# Altium integrated library Diodes - TVS.IntLib: 5379 symbols (part 109 of 122)
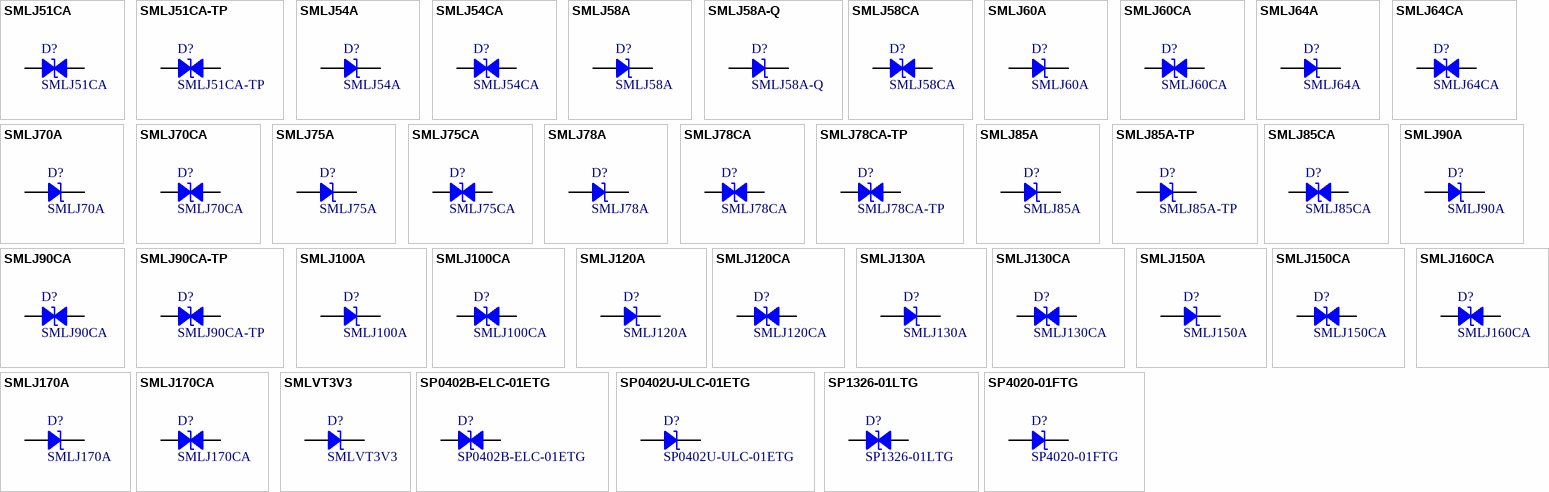
[diagram p242: symbols SMLJ51CA to SP4020-01FTG]

## SMLJ58A
designator D?
TVS DIODE 58V 93.6V SMC; Manufacturer: Bourns Inc.; Current - Peak Pulse (10/1000µs): 32A; Power Line Protection: No; Power - Peak Pulse: 3000W (3kW); Type: Zener; Unidirectional Channels: 1; Voltage - Breakdown (Min): 64.4V; Part Number: SMLJ58A; Applications: General Purpose; ComponentLink1Description: Datasheet; ComponentLink1URL: https://www.bourns.com/docs/Product-Datasheets/SMLJ.pdf; ComponentLink2Description: DigiKey Link; ComponentLink2URL: http://digikey.com/product-detail/en/bourns-inc/SMLJ58A/SMLJ58ABCT-ND/2254433; LastUpdated: 9/2/2020 1:20:02 AM; Lifecycle Status: Active; Minimum Order: 1; Mounting Type: Surface Mount; Operating Temperature: -55°C ~ 150°C (TJ); Package / Case: DO-214AB, SMC; Packaging: TapeAndReel; PartId: 6644; Part Status: Active; Price: 0.46; Series: SMLJ; Supplier 1: DigiKey; Supplier Part Number 1: SMLJ58ABCT-ND; Supplier Device Package: SMC (DO-214AB); Voltage - Clamping (Max) @ Ipp: 93.6V; Voltage - Reverse Standoff (Typ): 58V
footprint DO214AB SMC
pins: 1, 2

## SMLJ58A-Q
designator D?
TVS DIODE 58V 93.6V SMC; Manufacturer: Bourns Inc.; Current - Peak Pulse (10/1000µs): 32A; Power Line Protection: No; Power - Peak Pulse: 3000W (3kW); Type: Zener; Unidirectional Channels: 1; Voltage - Breakdown (Min): 64.4V; Part Number: SMLJ58A-Q; Applications: Automotive; ComponentLink1Description: Datasheet; ComponentLink1URL: https://www.bourns.com/docs/Product-Datasheets/SMLJ-Q.pdf; ComponentLink2Description: DigiKey Link; ComponentLink2URL: http://digikey.com/product-detail/en/bourns-inc/SMLJ58A-Q/SMLJ58A-QCT-ND/10222746; LastUpdated: 9/2/2020 1:20:02 AM; Lifecycle Status: Active; Minimum Order: 1; Mounting Type: Surface Mount; Operating Temperature: -55°C ~ 150°C (TJ); Package / Case: DO-214AB, SMC; Packaging: TapeAndReel; PartId: 6606; Part Status: Active; Price: 0.51; Series: Automotive, AEC-Q101, SMLJ; Supplier 1: DigiKey; Supplier Part Number 1: SMLJ58A-QCT-ND; Supplier Device Package: SMC (DO-214AB); Voltage - Clamping (Max) @ Ipp: 93.6V; Voltage - Reverse Standoff (Typ): 58V
footprint DO214AB SMC
pins: 1, 2

## SMLJ58CA
designator D?
TVS DIODE 58V 93.6V SMC; Manufacturer: Bourns Inc.; Bidirectional Channels: 1; Current - Peak Pulse (10/1000µs): 32A; Power Line Protection: No; Power - Peak Pulse: 3000W (3kW); Type: Zener; Voltage - Breakdown (Min): 64.4V; Part Number: SMLJ58CA; Applications: General Purpose; ComponentLink1Description: Datasheet; ComponentLink1URL: https://www.bourns.com/docs/Product-Datasheets/SMLJ.pdf; ComponentLink2Description: DigiKey Link; ComponentLink2URL: http://digikey.com/product-detail/en/bourns-inc/SMLJ58CA/SMLJ58CABCT-ND/2253689; LastUpdated: 9/2/2020 1:28:04 AM; Lifecycle Status: Active; Minimum Order: 1; Mounting Type: Surface Mount; Operating Temperature: -55°C ~ 150°C (TJ); Package / Case: DO-214AB, SMC; Packaging: TapeAndReel; PartId: 8257; Part Status: Active; Price: 0.51; Series: SMLJ; Supplier 1: DigiKey; Supplier Part Number 1: SMLJ58CABCT-ND; Supplier Device Package: SMC (DO-214AB); Voltage - Clamping (Max) @ Ipp: 93.6V; Voltage - Reverse Standoff (Typ): 58V
footprint DO214AB SMC
pins: 1, 2

## SMLJ60A
designator D?
TVS DIODE 60V 96.8V SMC; Manufacturer: Bourns Inc.; Current - Peak Pulse (10/1000µs): 31A; Power Line Protection: No; Power - Peak Pulse: 3000W (3kW); Type: Zener; Unidirectional Channels: 1; Voltage - Breakdown (Min): 66.7V; Part Number: SMLJ60A; Applications: General Purpose; ComponentLink1Description: Datasheet; ComponentLink1URL: https://www.bourns.com/docs/Product-Datasheets/SMLJ.pdf; ComponentLink2Description: DigiKey Link; ComponentLink2URL: http://digikey.com/product-detail/en/bourns-inc/SMLJ60A/SMLJ60ABCT-ND/2254437; LastUpdated: 9/2/2020 1:20:07 AM; Lifecycle Status: Active; Minimum Order: 1; Mounting Type: Surface Mount; Operating Temperature: -55°C ~ 150°C (TJ); Package / Case: DO-214AB, SMC; Packaging: TapeAndReel; PartId: 7170; Part Status: Active; Price: 0.46; Series: SMLJ; Supplier 1: DigiKey; Supplier Part Number 1: SMLJ60ABCT-ND; Supplier Device Package: SMC (DO-214AB); Voltage - Clamping (Max) @ Ipp: 96.8V; Voltage - Reverse Standoff (Typ): 60V
footprint DO214AB SMC
pins: 1, 2

## SMLJ60CA
designator D?
TVS DIODE 60V 96.8V SMC; Manufacturer: Bourns Inc.; Bidirectional Channels: 1; Current - Peak Pulse (10/1000µs): 31A; Power Line Protection: No; Power - Peak Pulse: 3000W (3kW); Type: Zener; Voltage - Breakdown (Min): 66.7V; Part Number: SMLJ60CA; Applications: General Purpose; ComponentLink1Description: Datasheet; ComponentLink1URL: https://www.bourns.com/docs/Product-Datasheets/SMLJ.pdf; ComponentLink2Description: DigiKey Link; ComponentLink2URL: http://digikey.com/product-detail/en/bourns-inc/SMLJ60CA/SMLJ60CABCT-ND/2253690; LastUpdated: 9/2/2020 1:28:04 AM; Lifecycle Status: Active; Minimum Order: 1; Mounting Type: Surface Mount; Operating Temperature: -55°C ~ 150°C (TJ); Package / Case: DO-214AB, SMC; Packaging: TapeAndReel; PartId: 8255; Part Status: Active; Price: 0.51; Series: SMLJ; Supplier 1: DigiKey; Supplier Part Number 1: SMLJ60CABCT-ND; Supplier Device Package: SMC (DO-214AB); Voltage - Clamping (Max) @ Ipp: 96.8V; Voltage - Reverse Standoff (Typ): 60V
footprint DO214AB SMC
pins: 1, 2

## SMLJ64A
designator D?
TVS DIODE 64V 103V SMC; Manufacturer: Bourns Inc.; Current - Peak Pulse (10/1000µs): 29.2A; Power Line Protection: No; Power - Peak Pulse: 3000W (3kW); Type: Zener; Unidirectional Channels: 1; Voltage - Breakdown (Min): 71.1V; Part Number: SMLJ64A; Applications: General Purpose; ComponentLink1Description: Datasheet; ComponentLink1URL: https://www.bourns.com/docs/Product-Datasheets/SMLJ.pdf; ComponentLink2Description: DigiKey Link; ComponentLink2URL: http://digikey.com/product-detail/en/bourns-inc/SMLJ64A/SMLJ64ABCT-ND/2254468; LastUpdated: 9/2/2020 1:20:07 AM; Lifecycle Status: Active; Minimum Order: 1; Mounting Type: Surface Mount; Operating Temperature: -55°C ~ 150°C (TJ); Package / Case: DO-214AB, SMC; Packaging: TapeAndReel; PartId: 7137; Part Status: Active; Price: 0.46; Series: SMLJ; Supplier 1: DigiKey; Supplier Part Number 1: SMLJ64ABCT-ND; Supplier Device Package: SMC (DO-214AB); Voltage - Clamping (Max) @ Ipp: 103V; Voltage - Reverse Standoff (Typ): 64V
footprint DO214AB SMC
pins: 1, 2

## SMLJ64CA
designator D?
TVS DIODE 64V 103V SMC; Manufacturer: Bourns Inc.; Bidirectional Channels: 1; Current - Peak Pulse (10/1000µs): 29.2A; Power Line Protection: No; Power - Peak Pulse: 3000W (3kW); Type: Zener; Voltage - Breakdown (Min): 71.1V; Part Number: SMLJ64CA; Applications: General Purpose; ComponentLink1Description: Datasheet; ComponentLink1URL: https://www.bourns.com/docs/Product-Datasheets/SMLJ.pdf; ComponentLink2Description: DigiKey Link; ComponentLink2URL: http://digikey.com/product-detail/en/bourns-inc/SMLJ64CA/SMLJ64CABCT-ND/2253691; LastUpdated: 9/2/2020 1:28:08 AM; Lifecycle Status: Active; Minimum Order: 1; Mounting Type: Surface Mount; Operating Temperature: -55°C ~ 150°C (TJ); Package / Case: DO-214AB, SMC; Packaging: TapeAndReel; PartId: 8676; Part Status: Active; Price: 0.51; Series: SMLJ; Supplier 1: DigiKey; Supplier Part Number 1: SMLJ64CABCT-ND; Supplier Device Package: SMC (DO-214AB); Voltage - Clamping (Max) @ Ipp: 103V; Voltage - Reverse Standoff (Typ): 64V
footprint DO214AB SMC
pins: 1, 2

## SMLJ70A
designator D?
TVS DIODE 70V 113V SMC; Manufacturer: Bourns Inc.; Current - Peak Pulse (10/1000µs): 26.6A; Power Line Protection: No; Power - Peak Pulse: 3000W (3kW); Type: Zener; Unidirectional Channels: 1; Voltage - Breakdown (Min): 77.8V; Part Number: SMLJ70A; Applications: General Purpose; ComponentLink1Description: Datasheet; ComponentLink1URL: https://www.bourns.com/docs/Product-Datasheets/SMLJ.pdf; ComponentLink2Description: DigiKey Link; ComponentLink2URL: http://digikey.com/product-detail/en/bourns-inc/SMLJ70A/SMLJ70ABCT-ND/2254431; LastUpdated: 9/2/2020 1:20:01 AM; Lifecycle Status: Active; Minimum Order: 1; Mounting Type: Surface Mount; Operating Temperature: -55°C ~ 150°C (TJ); Package / Case: DO-214AB, SMC; Packaging: TapeAndReel; PartId: 6460; Part Status: Active; Price: 0.46; Series: SMLJ; Supplier 1: DigiKey; Supplier Part Number 1: SMLJ70ABCT-ND; Supplier Device Package: SMC (DO-214AB); Voltage - Clamping (Max) @ Ipp: 113V; Voltage - Reverse Standoff (Typ): 70V
footprint DO214AB SMC
pins: 1, 2

## SMLJ70CA
designator D?
TVS DIODE 70V 113V SMC; Manufacturer: Bourns Inc.; Bidirectional Channels: 1; Current - Peak Pulse (10/1000µs): 26.6A; Power Line Protection: No; Power - Peak Pulse: 3000W (3kW); Type: Zener; Voltage - Breakdown (Min): 77.8V; Part Number: SMLJ70CA; Applications: General Purpose; ComponentLink1Description: Datasheet; ComponentLink1URL: https://www.bourns.com/docs/Product-Datasheets/SMLJ.pdf; ComponentLink2Description: DigiKey Link; ComponentLink2URL: http://digikey.com/product-detail/en/bourns-inc/SMLJ70CA/SMLJ70CABCT-ND/2253692; LastUpdated: 9/2/2020 1:28:07 AM; Lifecycle Status: Active; Minimum Order: 1; Mounting Type: Surface Mount; Operating Temperature: -55°C ~ 150°C (TJ); Package / Case: DO-214AB, SMC; Packaging: TapeAndReel; PartId: 8550; Part Status: Active; Price: 0.51; Series: SMLJ; Supplier 1: DigiKey; Supplier Part Number 1: SMLJ70CABCT-ND; Supplier Device Package: SMC (DO-214AB); Voltage - Clamping (Max) @ Ipp: 113V; Voltage - Reverse Standoff (Typ): 70V
footprint DO214AB SMC
pins: 1, 2

## SMLJ75A
designator D?
TVS DIODE 75V 121V SMC; Manufacturer: Bourns Inc.; Current - Peak Pulse (10/1000µs): 24.8A; Power Line Protection: No; Power - Peak Pulse: 3000W (3kW); Type: Zener; Unidirectional Channels: 1; Voltage - Breakdown (Min): 83.3V; Part Number: SMLJ75A; Applications: General Purpose; ComponentLink1Description: Datasheet; ComponentLink1URL: https://www.bourns.com/docs/Product-Datasheets/SMLJ.pdf; ComponentLink2Description: DigiKey Link; ComponentLink2URL: http://digikey.com/product-detail/en/bourns-inc/SMLJ75A/SMLJ75ABCT-ND/2253647; LastUpdated: 9/2/2020 1:20:07 AM; Lifecycle Status: Active; Minimum Order: 1; Mounting Type: Surface Mount; Operating Temperature: -55°C ~ 150°C (TJ); Package / Case: DO-214AB, SMC; Packaging: TapeAndReel; PartId: 7182; Part Status: Active; Price: 0.46; Series: SMLJ; Supplier 1: DigiKey; Supplier Part Number 1: SMLJ75ABCT-ND; Supplier Device Package: SMC (DO-214AB); Voltage - Clamping (Max) @ Ipp: 121V; Voltage - Reverse Standoff (Typ): 75V
footprint DO214AB SMC
pins: 1, 2

## SMLJ75CA
designator D?
TVS DIODE 75V 121V SMC; Manufacturer: Bourns Inc.; Bidirectional Channels: 1; Current - Peak Pulse (10/1000µs): 24.8A; Power Line Protection: No; Power - Peak Pulse: 3000W (3kW); Type: Zener; Voltage - Breakdown (Min): 83.3V; Part Number: SMLJ75CA; Applications: General Purpose; ComponentLink1Description: Datasheet; ComponentLink1URL: https://www.bourns.com/docs/Product-Datasheets/SMLJ.pdf; ComponentLink2Description: DigiKey Link; ComponentLink2URL: http://digikey.com/product-detail/en/bourns-inc/SMLJ75CA/SMLJ75CABCT-ND/2253693; LastUpdated: 9/2/2020 1:28:07 AM; Lifecycle Status: Active; Minimum Order: 1; Mounting Type: Surface Mount; Operating Temperature: -55°C ~ 150°C (TJ); Package / Case: DO-214AB, SMC; Packaging: TapeAndReel; PartId: 8548; Part Status: Active; Price: 0.51; Series: SMLJ; Supplier 1: DigiKey; Supplier Part Number 1: SMLJ75CABCT-ND; Supplier Device Package: SMC (DO-214AB); Voltage - Clamping (Max) @ Ipp: 121V; Voltage - Reverse Standoff (Typ): 75V
footprint DO214AB SMC
pins: 1, 2

## SMLJ78A
designator D?
TVS DIODE 78V 126V SMC; Manufacturer: Bourns Inc.; Current - Peak Pulse (10/1000µs): 22.8A; Power Line Protection: No; Power - Peak Pulse: 3000W (3kW); Type: Zener; Unidirectional Channels: 1; Voltage - Breakdown (Min): 86.7V; Part Number: SMLJ78A; Applications: General Purpose; ComponentLink1Description: Datasheet; ComponentLink1URL: https://www.bourns.com/docs/Product-Datasheets/SMLJ.pdf; ComponentLink2Description: DigiKey Link; ComponentLink2URL: http://digikey.com/product-detail/en/bourns-inc/SMLJ78A/SMLJ78ABCT-ND/2253648; LastUpdated: 9/2/2020 1:20:07 AM; Lifecycle Status: Active; Minimum Order: 1; Mounting Type: Surface Mount; Operating Temperature: -55°C ~ 150°C (TJ); Package / Case: DO-214AB, SMC; Packaging: TapeAndReel; PartId: 7136; Part Status: Active; Price: 0.46; Series: SMLJ; Supplier 1: DigiKey; Supplier Part Number 1: SMLJ78ABCT-ND; Supplier Device Package: SMC (DO-214AB); Voltage - Clamping (Max) @ Ipp: 126V; Voltage - Reverse Standoff (Typ): 78V
footprint DO214AB SMC
pins: 1, 2

## SMLJ78CA
designator D?
TVS DIODE 78V 126V SMC; Manufacturer: Bourns Inc.; Bidirectional Channels: 1; Current - Peak Pulse (10/1000µs): 22.8A; Power Line Protection: No; Power - Peak Pulse: 3000W (3kW); Type: Zener; Voltage - Breakdown (Min): 86.7V; Part Number: SMLJ78CA; Applications: General Purpose; ComponentLink1Description: Datasheet; ComponentLink1URL: https://www.bourns.com/docs/Product-Datasheets/SMLJ.pdf; ComponentLink2Description: DigiKey Link; ComponentLink2URL: http://digikey.com/product-detail/en/bourns-inc/SMLJ78CA/SMLJ78CABCT-ND/2253694; LastUpdated: 9/2/2020 1:28:03 AM; Lifecycle Status: Active; Minimum Order: 1; Mounting Type: Surface Mount; Operating Temperature: -55°C ~ 150°C (TJ); Package / Case: DO-214AB, SMC; Packaging: TapeAndReel; PartId: 8081; Part Status: Active; Price: 0.51; Series: SMLJ; Supplier 1: DigiKey; Supplier Part Number 1: SMLJ78CABCT-ND; Supplier Device Package: SMC (DO-214AB); Voltage - Clamping (Max) @ Ipp: 126V; Voltage - Reverse Standoff (Typ): 78V
footprint DO214AB SMC
pins: 1, 2

## SMLJ78CA-TP
designator D?
TVS DIODE 78V 126V DO214AB; Manufacturer: Micro Commercial Co; Bidirectional Channels: 1; Current - Peak Pulse (10/1000µs): 22.8A; Power Line Protection: No; Power - Peak Pulse: 3000W (3kW); Type: Zener; Voltage - Breakdown (Min): 86.7V; Part Number: SMLJ78CA-TP; Applications: General Purpose; ComponentLink1Description: Datasheet; ComponentLink1URL: https://www.mccsemi.com/pdf/Products/SMLJ5.0-SMLJ170CA(LSMC).pdf; ComponentLink2Description: DigiKey Link; ComponentLink2URL: http://digikey.com/product-detail/en/micro-commercial-co/SMLJ78CA-TP/SMLJ78CA-TPMSCT-ND/3191629; LastUpdated: 9/2/2020 1:28:07 AM; Lifecycle Status: Active; Minimum Order: 1; Mounting Type: Surface Mount; Operating Temperature: -55°C ~ 175°C (TJ); Package / Case: DO-214AB, SMC; Packaging: TapeAndReel; PartId: 8563; Part Status: Active; Price: 0.46; Series: -; Supplier 1: DigiKey; Supplier Part Number 1: SMLJ78CA-TPMSCT-ND; Supplier Device Package: DO-214AB (SMC); Voltage - Clamping (Max) @ Ipp: 126V; Voltage - Reverse Standoff (Typ): 78V
footprint DO214AB SMC
pins: 1, 2

## SMLJ85A
designator D?
TVS DIODE 85V 137V SMC; Manufacturer: Bourns Inc.; Current - Peak Pulse (10/1000µs): 20.8A; Power Line Protection: No; Power - Peak Pulse: 3000W (3kW); Type: Zener; Unidirectional Channels: 1; Voltage - Breakdown (Min): 94.4V; Part Number: SMLJ85A; Applications: General Purpose; ComponentLink1Description: Datasheet; ComponentLink1URL: https://www.bourns.com/docs/Product-Datasheets/SMLJ.pdf; ComponentLink2Description: DigiKey Link; ComponentLink2URL: http://digikey.com/product-detail/en/bourns-inc/SMLJ85A/SMLJ85ABCT-ND/2253649; LastUpdated: 9/2/2020 1:20:06 AM; Lifecycle Status: Active; Minimum Order: 1; Mounting Type: Surface Mount; Operating Temperature: -55°C ~ 150°C (TJ); Package / Case: DO-214AB, SMC; Packaging: TapeAndReel; PartId: 6992; Part Status: Active; Price: 0.46; Series: SMLJ; Supplier 1: DigiKey; Supplier Part Number 1: SMLJ85ABCT-ND; Supplier Device Package: SMC (DO-214AB); Voltage - Clamping (Max) @ Ipp: 137V; Voltage - Reverse Standoff (Typ): 85V
footprint DO214AB SMC
pins: 1, 2

## SMLJ85A-TP
designator D?
TVS DIODE 85V 137V DO214AB; Manufacturer: Micro Commercial Co; Current - Peak Pulse (10/1000µs): 20.8A; Power Line Protection: No; Power - Peak Pulse: 3000W (3kW); Type: Zener; Unidirectional Channels: 1; Voltage - Breakdown (Min): 94.4V; Part Number: SMLJ85A-TP; Applications: General Purpose; ComponentLink1Description: Datasheet; ComponentLink1URL: https://www.mccsemi.com/pdf/Products/SMLJ5.0-SMLJ440CA(LSMC).pdf; ComponentLink2Description: DigiKey Link; ComponentLink2URL: http://digikey.com/product-detail/en/micro-commercial-co/SMLJ85A-TP/SMLJ85A-TPMSCT-ND/5224330; LastUpdated: 9/2/2020 1:20:07 AM; Lifecycle Status: Active; Minimum Order: 1; Mounting Type: Surface Mount; Operating Temperature: -55°C ~ 175°C (TJ); Package / Case: DO-214AB, SMC; Packaging: TapeAndReel; PartId: 7171; Part Status: Active; Price: 0.40; Series: -; Supplier 1: DigiKey; Supplier Part Number 1: SMLJ85A-TPMSCT-ND; Supplier Device Package: DO-214AB (SMC); Voltage - Clamping (Max) @ Ipp: 137V; Voltage - Reverse Standoff (Typ): 85V
footprint DO214AB SMC
pins: 1, 2

## SMLJ85CA
designator D?
TVS DIODE 85V 137V SMC; Manufacturer: Bourns Inc.; Bidirectional Channels: 1; Current - Peak Pulse (10/1000µs): 20.8A; Power Line Protection: No; Power - Peak Pulse: 3000W (3kW); Type: Zener; Voltage - Breakdown (Min): 94.4V; Part Number: SMLJ85CA; Applications: General Purpose; ComponentLink1Description: Datasheet; ComponentLink1URL: https://www.bourns.com/docs/Product-Datasheets/SMLJ.pdf; ComponentLink2Description: DigiKey Link; ComponentLink2URL: http://digikey.com/product-detail/en/bourns-inc/SMLJ85CA/SMLJ85CABCT-ND/2253695; LastUpdated: 9/2/2020 1:28:04 AM; Lifecycle Status: Active; Minimum Order: 1; Mounting Type: Surface Mount; Operating Temperature: -55°C ~ 150°C (TJ); Package / Case: DO-214AB, SMC; Packaging: TapeAndReel; PartId: 8264; Part Status: Active; Price: 0.46; Series: SMLJ; Supplier 1: DigiKey; Supplier Part Number 1: SMLJ85CABCT-ND; Supplier Device Package: SMC (DO-214AB); Voltage - Clamping (Max) @ Ipp: 137V; Voltage - Reverse Standoff (Typ): 85V
footprint DO214AB SMC
pins: 1, 2

## SMLJ90A
designator D?
TVS DIODE 90V 146V SMC; Manufacturer: Bourns Inc.; Current - Peak Pulse (10/1000µs): 20.6A; Power Line Protection: No; Power - Peak Pulse: 3000W (3kW); Type: Zener; Unidirectional Channels: 1; Voltage - Breakdown (Min): 100V; Part Number: SMLJ90A; Applications: General Purpose; ComponentLink1Description: Datasheet; ComponentLink1URL: https://www.bourns.com/docs/Product-Datasheets/SMLJ.pdf; ComponentLink2Description: DigiKey Link; ComponentLink2URL: http://digikey.com/product-detail/en/bourns-inc/SMLJ90A/SMLJ90ABCT-ND/2253650; LastUpdated: 9/2/2020 1:20:01 AM; Lifecycle Status: Active; Minimum Order: 1; Mounting Type: Surface Mount; Operating Temperature: -55°C ~ 150°C (TJ); Package / Case: DO-214AB, SMC; Packaging: TapeAndReel; PartId: 6458; Part Status: Active; Price: 0.46; Series: SMLJ; Supplier 1: DigiKey; Supplier Part Number 1: SMLJ90ABCT-ND; Supplier Device Package: SMC (DO-214AB); Voltage - Clamping (Max) @ Ipp: 146V; Voltage - Reverse Standoff (Typ): 90V
footprint DO214AB SMC
pins: 1, 2

## SMLJ90CA
designator D?
TVS DIODE 90V 146V SMC; Manufacturer: Bourns Inc.; Bidirectional Channels: 1; Current - Peak Pulse (10/1000µs): 20.6A; Power Line Protection: No; Power - Peak Pulse: 3000W (3kW); Type: Zener; Voltage - Breakdown (Min): 100V; Part Number: SMLJ90CA; Applications: General Purpose; ComponentLink1Description: Datasheet; ComponentLink1URL: https://www.bourns.com/docs/Product-Datasheets/SMLJ.pdf; ComponentLink2Description: DigiKey Link; ComponentLink2URL: http://digikey.com/product-detail/en/bourns-inc/SMLJ90CA/SMLJ90CABCT-ND/2253696; LastUpdated: 9/2/2020 1:28:07 AM; Lifecycle Status: Active; Minimum Order: 1; Mounting Type: Surface Mount; Operating Temperature: -55°C ~ 150°C (TJ); Package / Case: DO-214AB, SMC; Packaging: TapeAndReel; PartId: 8547; Part Status: Active; Price: 0.51; Series: SMLJ; Supplier 1: DigiKey; Supplier Part Number 1: SMLJ90CABCT-ND; Supplier Device Package: SMC (DO-214AB); Voltage - Clamping (Max) @ Ipp: 146V; Voltage - Reverse Standoff (Typ): 90V
footprint DO214AB SMC
pins: 1, 2

## SMLJ90CA-TP
designator D?
TVS DIODE 90V 146V DO214AB; Manufacturer: Micro Commercial Co; Bidirectional Channels: 1; Current - Peak Pulse (10/1000µs): 20.6A; Power Line Protection: No; Power - Peak Pulse: 3000W (3kW); Type: Zener; Voltage - Breakdown (Min): 100V; Part Number: SMLJ90CA-TP; Applications: General Purpose; ComponentLink1Description: Datasheet; ComponentLink1URL: https://www.mccsemi.com/pdf/Products/SMLJ5.0-SMLJ170CA(LSMC).pdf; ComponentLink2Description: DigiKey Link; ComponentLink2URL: http://digikey.com/product-detail/en/micro-commercial-co/SMLJ90CA-TP/SMLJ90CA-TPMSCT-ND/3191630; LastUpdated: 9/2/2020 1:28:01 AM; Lifecycle Status: Active; Minimum Order: 1; Mounting Type: Surface Mount; Operating Temperature: -55°C ~ 175°C (TJ); Package / Case: DO-214AB, SMC; Packaging: TapeAndReel; PartId: 7905; Part Status: Active; Price: 0.46; Series: -; Supplier 1: DigiKey; Supplier Part Number 1: SMLJ90CA-TPMSCT-ND; Supplier Device Package: DO-214AB (SMC); Voltage - Clamping (Max) @ Ipp: 146V; Voltage - Reverse Standoff (Typ): 90V
footprint DO214AB SMC
pins: 1, 2

## SMLJ100A
designator D?
TVS DIODE 100V 162V SMC; Manufacturer: Bourns Inc.; Current - Peak Pulse (10/1000µs): 18.6A; Power Line Protection: No; Power - Peak Pulse: 3000W (3kW); Type: Zener; Unidirectional Channels: 1; Voltage - Breakdown (Min): 111V; Part Number: SMLJ100A; Applications: General Purpose; ComponentLink1Description: Datasheet; ComponentLink1URL: https://www.bourns.com/docs/Product-Datasheets/SMLJ.pdf; ComponentLink2Description: DigiKey Link; ComponentLink2URL: http://digikey.com/product-detail/en/bourns-inc/SMLJ100A/SMLJ100ABCT-ND/2253651; LastUpdated: 9/2/2020 1:20:06 AM; Lifecycle Status: Active; Minimum Order: 1; Mounting Type: Surface Mount; Operating Temperature: -55°C ~ 150°C (TJ); Package / Case: DO-214AB, SMC; Packaging: TapeAndReel; PartId: 6991; Part Status: Active; Price: 0.46; Series: SMLJ; Supplier 1: DigiKey; Supplier Part Number 1: SMLJ100ABCT-ND; Supplier Device Package: SMC (DO-214AB); Voltage - Clamping (Max) @ Ipp: 162V; Voltage - Reverse Standoff (Typ): 100V
footprint DO214AB SMC
pins: 1, 2

## SMLJ100CA
designator D?
TVS DIODE 100V 162V SMC; Manufacturer: Bourns Inc.; Bidirectional Channels: 1; Current - Peak Pulse (10/1000µs): 18.6A; Power Line Protection: No; Power - Peak Pulse: 3000W (3kW); Type: Zener; Voltage - Breakdown (Min): 111V; Part Number: SMLJ100CA; Applications: General Purpose; ComponentLink1Description: Datasheet; ComponentLink1URL: https://www.bourns.com/docs/Product-Datasheets/SMLJ.pdf; ComponentLink2Description: DigiKey Link; ComponentLink2URL: http://digikey.com/product-detail/en/bourns-inc/SMLJ100CA/SMLJ100CABCT-ND/2253697; LastUpdated: 9/2/2020 1:28:03 AM; Lifecycle Status: Active; Minimum Order: 1; Mounting Type: Surface Mount; Operating Temperature: -55°C ~ 150°C (TJ); Package / Case: DO-214AB, SMC; Packaging: TapeAndReel; PartId: 8084; Part Status: Active; Price: 0.51; Series: SMLJ; Supplier 1: DigiKey; Supplier Part Number 1: SMLJ100CABCT-ND; Supplier Device Package: SMC (DO-214AB); Voltage - Clamping (Max) @ Ipp: 162V; Voltage - Reverse Standoff (Typ): 100V
footprint DO214AB SMC
pins: 1, 2

## SMLJ120A
designator D?
TVS DIODE 120V 193V SMC; Manufacturer: Bourns Inc.; Current - Peak Pulse (10/1000µs): 15.6A; Power Line Protection: No; Power - Peak Pulse: 3000W (3kW); Type: Zener; Unidirectional Channels: 1; Voltage - Breakdown (Min): 133V; Part Number: SMLJ120A; Applications: General Purpose; ComponentLink1Description: Datasheet; ComponentLink1URL: https://www.bourns.com/docs/Product-Datasheets/SMLJ.pdf; ComponentLink2Description: DigiKey Link; ComponentLink2URL: http://digikey.com/product-detail/en/bourns-inc/SMLJ120A/SMLJ120ABCT-ND/2253653; LastUpdated: 9/2/2020 1:20:07 AM; Lifecycle Status: Active; Minimum Order: 1; Mounting Type: Surface Mount; Operating Temperature: -55°C ~ 150°C (TJ); Package / Case: DO-214AB, SMC; Packaging: TapeAndReel; PartId: 7138; Part Status: Active; Price: 0.46; Series: SMLJ; Supplier 1: DigiKey; Supplier Part Number 1: SMLJ120ABCT-ND; Supplier Device Package: SMC (DO-214AB); Voltage - Clamping (Max) @ Ipp: 193V; Voltage - Reverse Standoff (Typ): 120V
footprint DO214AB SMC
pins: 1, 2

## SMLJ120CA
designator D?
TVS DIODE 120V 193V SMC; Manufacturer: Bourns Inc.; Bidirectional Channels: 1; Current - Peak Pulse (10/1000µs): 15.6A; Power Line Protection: No; Power - Peak Pulse: 3000W (3kW); Type: Zener; Voltage - Breakdown (Min): 133V; Part Number: SMLJ120CA; Applications: General Purpose; ComponentLink1Description: Datasheet; ComponentLink1URL: https://www.bourns.com/docs/Product-Datasheets/SMLJ.pdf; ComponentLink2Description: DigiKey Link; ComponentLink2URL: http://digikey.com/product-detail/en/bourns-inc/SMLJ120CA/SMLJ120CABCT-ND/2253699; LastUpdated: 9/2/2020 1:28:03 AM; Lifecycle Status: Active; Minimum Order: 1; Mounting Type: Surface Mount; Operating Temperature: -55°C ~ 150°C (TJ); Package / Case: DO-214AB, SMC; Packaging: TapeAndReel; PartId: 8083; Part Status: Active; Price: 0.51; Series: SMLJ; Supplier 1: DigiKey; Supplier Part Number 1: SMLJ120CABCT-ND; Supplier Device Package: SMC (DO-214AB); Voltage - Clamping (Max) @ Ipp: 193V; Voltage - Reverse Standoff (Typ): 120V
footprint DO214AB SMC
pins: 1, 2

## SMLJ130A
designator D?
TVS DIODE 130V 209V SMC; Manufacturer: Bourns Inc.; Current - Peak Pulse (10/1000µs): 14.4A; Power Line Protection: No; Power - Peak Pulse: 3000W (3kW); Type: Zener; Unidirectional Channels: 1; Voltage - Breakdown (Min): 144V; Part Number: SMLJ130A; Applications: General Purpose; ComponentLink1Description: Datasheet; ComponentLink1URL: https://www.bourns.com/docs/Product-Datasheets/SMLJ.pdf; ComponentLink2Description: DigiKey Link; ComponentLink2URL: http://digikey.com/product-detail/en/bourns-inc/SMLJ130A/SMLJ130ABCT-ND/2253654; LastUpdated: 9/2/2020 1:20:06 AM; Lifecycle Status: Active; Minimum Order: 1; Mounting Type: Surface Mount; Operating Temperature: -55°C ~ 150°C (TJ); Package / Case: DO-214AB, SMC; Packaging: TapeAndReel; PartId: 6993; Part Status: Active; Price: 0.46; Series: SMLJ; Supplier 1: DigiKey; Supplier Part Number 1: SMLJ130ABCT-ND; Supplier Device Package: SMC (DO-214AB); Voltage - Clamping (Max) @ Ipp: 209V; Voltage - Reverse Standoff (Typ): 130V
footprint DO214AB SMC
pins: 1, 2

## SMLJ130CA
designator D?
TVS DIODE 130V 209V SMC; Manufacturer: Bourns Inc.; Bidirectional Channels: 1; Current - Peak Pulse (10/1000µs): 14.4A; Power Line Protection: No; Power - Peak Pulse: 3000W (3kW); Type: Zener; Voltage - Breakdown (Min): 144V; Part Number: SMLJ130CA; Applications: General Purpose; ComponentLink1Description: Datasheet; ComponentLink1URL: https://www.bourns.com/docs/Product-Datasheets/SMLJ.pdf; ComponentLink2Description: DigiKey Link; ComponentLink2URL: http://digikey.com/product-detail/en/bourns-inc/SMLJ130CA/SMLJ130CABCT-ND/2253700; LastUpdated: 9/2/2020 1:28:07 AM; Lifecycle Status: Active; Minimum Order: 1; Mounting Type: Surface Mount; Operating Temperature: -55°C ~ 150°C (TJ); Package / Case: DO-214AB, SMC; Packaging: TapeAndReel; PartId: 8549; Part Status: Active; Price: 0.51; Series: SMLJ; Supplier 1: DigiKey; Supplier Part Number 1: SMLJ130CABCT-ND; Supplier Device Package: SMC (DO-214AB); Voltage - Clamping (Max) @ Ipp: 209V; Voltage - Reverse Standoff (Typ): 130V
footprint DO214AB SMC
pins: 1, 2

## SMLJ150A
designator D?
TVS DIODE 150V 243V SMC; Manufacturer: Bourns Inc.; Current - Peak Pulse (10/1000µs): 12.4A; Power Line Protection: No; Power - Peak Pulse: 3000W (3kW); Type: Zener; Unidirectional Channels: 1; Voltage - Breakdown (Min): 167V; Part Number: SMLJ150A; Applications: General Purpose; ComponentLink1Description: Datasheet; ComponentLink1URL: https://www.bourns.com/docs/Product-Datasheets/SMLJ.pdf; ComponentLink2Description: DigiKey Link; ComponentLink2URL: http://digikey.com/product-detail/en/bourns-inc/SMLJ150A/SMLJ150ABCT-ND/2253655; LastUpdated: 9/2/2020 1:20:01 AM; Lifecycle Status: Active; Minimum Order: 1; Mounting Type: Surface Mount; Operating Temperature: -55°C ~ 150°C (TJ); Package / Case: DO-214AB, SMC; Packaging: TapeAndReel; PartId: 6461; Part Status: Active; Price: 0.46; Series: SMLJ; Supplier 1: DigiKey; Supplier Part Number 1: SMLJ150ABCT-ND; Supplier Device Package: SMC (DO-214AB); Voltage - Clamping (Max) @ Ipp: 243V; Voltage - Reverse Standoff (Typ): 150V
footprint DO214AB SMC
pins: 1, 2

## SMLJ150CA
designator D?
TVS DIODE 150V 243V SMC; Manufacturer: Bourns Inc.; Bidirectional Channels: 1; Current - Peak Pulse (10/1000µs): 12.4A; Power Line Protection: No; Power - Peak Pulse: 3000W (3kW); Type: Zener; Voltage - Breakdown (Min): 167V; Part Number: SMLJ150CA; Applications: General Purpose; ComponentLink1Description: Datasheet; ComponentLink1URL: https://www.bourns.com/docs/Product-Datasheets/SMLJ.pdf; ComponentLink2Description: DigiKey Link; ComponentLink2URL: http://digikey.com/product-detail/en/bourns-inc/SMLJ150CA/SMLJ150CABCT-ND/2253701; LastUpdated: 9/2/2020 1:28:04 AM; Lifecycle Status: Active; Minimum Order: 1; Mounting Type: Surface Mount; Operating Temperature: -55°C ~ 150°C (TJ); Package / Case: DO-214AB, SMC; Packaging: TapeAndReel; PartId: 8155; Part Status: Active; Price: 0.48; Series: SMLJ; Supplier 1: DigiKey; Supplier Part Number 1: SMLJ150CABCT-ND; Supplier Device Package: SMC (DO-214AB); Voltage - Clamping (Max) @ Ipp: 243V; Voltage - Reverse Standoff (Typ): 150V
footprint DO214AB SMC
pins: 1, 2

## SMLJ160CA
designator D?
TVS DIODE 160V 259V SMC; Manufacturer: Bourns Inc.; Bidirectional Channels: 1; Current - Peak Pulse (10/1000µs): 11.6A; Power Line Protection: No; Power - Peak Pulse: 3000W (3kW); Type: Zener; Voltage - Breakdown (Min): 178V; Part Number: SMLJ160CA; Applications: General Purpose; ComponentLink1Description: Datasheet; ComponentLink1URL: https://www.bourns.com/docs/Product-Datasheets/SMLJ.pdf; ComponentLink2Description: DigiKey Link; ComponentLink2URL: http://digikey.com/product-detail/en/bourns-inc/SMLJ160CA/SMLJ160CABCT-ND/2253702; LastUpdated: 9/2/2020 1:28:04 AM; Lifecycle Status: Active; Minimum Order: 1; Mounting Type: Surface Mount; Operating Temperature: -55°C ~ 150°C (TJ); Package / Case: DO-214AB, SMC; Packaging: TapeAndReel; PartId: 8256; Part Status: Active; Price: 0.51; Series: SMLJ; Supplier 1: DigiKey; Supplier Part Number 1: SMLJ160CABCT-ND; Supplier Device Package: SMC (DO-214AB); Voltage - Clamping (Max) @ Ipp: 259V; Voltage - Reverse Standoff (Typ): 160V
footprint DO214AB SMC
pins: 1, 2

## SMLJ170A
designator D?
TVS DIODE 170V 275V SMC; Manufacturer: Bourns Inc.; Current - Peak Pulse (10/1000µs): 11A; Power Line Protection: No; Power - Peak Pulse: 3000W (3kW); Type: Zener; Unidirectional Channels: 1; Voltage - Breakdown (Min): 189V; Part Number: SMLJ170A; Applications: General Purpose; ComponentLink1Description: Datasheet; ComponentLink1URL: https://www.bourns.com/docs/Product-Datasheets/SMLJ.pdf; ComponentLink2Description: DigiKey Link; ComponentLink2URL: http://digikey.com/product-detail/en/bourns-inc/SMLJ170A/SMLJ170ABCT-ND/2253657; LastUpdated: 9/2/2020 1:20:02 AM; Lifecycle Status: Active; Minimum Order: 1; Mounting Type: Surface Mount; Operating Temperature: -55°C ~ 150°C (TJ); Package / Case: DO-214AB, SMC; Packaging: TapeAndReel; PartId: 6650; Part Status: Active; Price: 0.41; Series: SMLJ; Supplier 1: DigiKey; Supplier Part Number 1: SMLJ170ABCT-ND; Supplier Device Package: SMC (DO-214AB); Voltage - Clamping (Max) @ Ipp: 275V; Voltage - Reverse Standoff (Typ): 170V
footprint DO214AB SMC
pins: 1, 2

## SMLJ170CA
designator D?
TVS DIODE 170V 275V SMC; Manufacturer: Bourns Inc.; Bidirectional Channels: 1; Current - Peak Pulse (10/1000µs): 11A; Power Line Protection: No; Power - Peak Pulse: 3000W (3kW); Type: Zener; Voltage - Breakdown (Min): 189V; Part Number: SMLJ170CA; Applications: General Purpose; ComponentLink1Description: Datasheet; ComponentLink1URL: https://www.bourns.com/docs/Product-Datasheets/SMLJ.pdf; ComponentLink2Description: DigiKey Link; ComponentLink2URL: http://digikey.com/product-detail/en/bourns-inc/SMLJ170CA/SMLJ170CABCT-ND/2253703; LastUpdated: 9/2/2020 1:28:02 AM; Lifecycle Status: Active; Minimum Order: 1; Mounting Type: Surface Mount; Operating Temperature: -55°C ~ 150°C (TJ); Package / Case: DO-214AB, SMC; Packaging: TapeAndReel; PartId: 7994; Part Status: Active; Price: 0.46; Series: SMLJ; Supplier 1: DigiKey; Supplier Part Number 1: SMLJ170CABCT-ND; Supplier Device Package: SMC (DO-214AB); Voltage - Clamping (Max) @ Ipp: 275V; Voltage - Reverse Standoff (Typ): 170V
footprint DO214AB SMC
pins: 1, 2

## SMLVT3V3
designator D?
TVS DIODE 3.3V 10.3V SMB; Manufacturer: STMicroelectronics; Capacitance @ Frequency: 5200pF @ 1MHz; Current - Peak Pulse (10/1000µs): 200A (8/20µs); Power Line Protection: No; Power - Peak Pulse: 600W; Type: Zener; Unidirectional Channels: 1; Voltage - Breakdown (Min): 4.1V; Part Number: SMLVT3V3; Applications: General Purpose; ComponentLink1Description: Datasheet; ComponentLink1URL: http://www.st.com/content/ccc/resource/technical/document/datasheet/da/a4/86/90/17/13/47/7c/CD00000923.pdf/files/CD00000923.pdf/jcr:content/translations/en.CD00000923.pdf; ComponentLink2Description: DigiKey Link; ComponentLink2URL: http://digikey.com/product-detail/en/stmicroelectronics/SMLVT3V3/497-2496-1-ND/603878; LastUpdated: 9/2/2020 1:19:47 AM; Lifecycle Status: Active; Minimum Order: 1; Mounting Type: Surface Mount; Operating Temperature: -25°C ~ 175°C (TJ); Package / Case: DO-214AA, SMB; Packaging: TapeAndReel; PartId: 10909; Part Status: Active; Price: 0.20; Series: SMLV, TRANSIL™; Supplier 1: DigiKey; Supplier Part Number 1: 497-2496-1-ND; Supplier Device Package: SMB (DO-214AA); Voltage - Clamping (Max) @ Ipp: 10.3V; Voltage - Reverse Standoff (Typ): 3.3V
footprint DO214AA SMB
pins: 1, 2

## SP0402B-ELC-01ETG
designator D?
TVS DIODE 7V 14V 0402/2DFN; Manufacturer: Littelfuse Inc.; Bidirectional Channels: 1; Capacitance @ Frequency: 0.15pF @ 1MHz; Current - Peak Pulse (10/1000µs): 2.5A (8/20µs); Power Line Protection: No; Type: Zener; Voltage - Breakdown (Min): 9.6V (Typ); Voltage - Clamping (Max) @ Ipp: 14V (Typ); Part Number: SP0402B-ELC-01ETG; Applications: General Purpose; ComponentLink1Description: Datasheet; ComponentLink1URL: https://www.littelfuse.com/~/media/electronics/datasheets/tvs_diode_arrays/littelfuse_tvs_diode_array_enhanced_esd_discrete_tvs_datasheet.pdf.pdf; ComponentLink2Description: DigiKey Link; ComponentLink2URL: http://digikey.com/product-detail/en/littelfuse-inc/SP0402B-ELC-01ETG/F9743TR-ND/6348253; Device Package: 0402 (1006 Metric); LastUpdated: 9/2/2020 1:28:49 AM; Lifecycle Status: Active; Minimum Order: 10000; Mounting Type: Surface Mount; Operating Temperature: -30°C ~ 85°C (TA); Package / Case: 0402 (1006 Metric); Packaging: TapeAndReel; PartId: 10471; Part Status: Active; Price: 0.11; Series: SPA®; Supplier 1: DigiKey; Supplier Part Number 1: F9743TR-ND; Supplier Device Package: 0402/2DFN (1x0.60); Voltage - Reverse Standoff (Typ): 7V
footprint 0402
pins: 1, 2

## SP0402U-ULC-01ETG
designator D?
TVS DIODE 5V 9.2V 0402/2DFN; Manufacturer: Littelfuse Inc.; Capacitance @ Frequency: 0.2pF @ 1MHz; Current - Peak Pulse (10/1000µs): 2A (8/20µs); Power Line Protection: No; Type: Zener; Unidirectional Channels: 1; Voltage - Breakdown (Min): 9V (Typ); Part Number: SP0402U-ULC-01ETG; Applications: General Purpose; ComponentLink1Description: Datasheet; ComponentLink1URL: https://www.littelfuse.com/~/media/electronics/datasheets/tvs_diode_arrays/littelfuse_tvs_diode_array_ultra_low_capacitance_discrete_tvs_datasheet.pdf.pdf; ComponentLink2Description: DigiKey Link; ComponentLink2URL: http://digikey.com/product-detail/en/littelfuse-inc/SP0402U-ULC-01ETG/18-SP0402U-ULC-01ETGCT-ND/12757178; LastUpdated: 8/30/2020 9:08:09 PM; Lifecycle Status: Active; Minimum Order: 1; Mounting Type: Surface Mount; Package / Case: 0402 (1006 Metric); Packaging: TapeAndReel; PartId: 11462; Price: 0.08; Series: SPA®; Supplier 1: DigiKey; Supplier Part Number 1: 18-SP0402U-ULC-01ETGCT-ND; Supplier Device Package: 0402/2DFN (1x0.60); Voltage - Clamping (Max) @ Ipp: 9.2V; Voltage - Reverse Standoff (Typ): 5V
footprint 0402
pins: 1, 2

## SP1326-01LTG
designator D?
TVS DIODE 5VWM SOD523; Manufacturer: Littelfuse Inc.; Bidirectional Channels: 1; Capacitance @ Frequency: 15pF @ 1MHz; Current - Peak Pulse (10/1000µs): 4A (8/20µs); Power Line Protection: No; Type: Zener; Voltage - Breakdown (Min): 7.8V (Typ); Voltage - Clamping (Max) @ Ipp: 15.5V (Typ); Voltage - Reverse Standoff (Typ): 6V (Max); Part Number: SP1326-01LTG; Applications: General Purpose; ComponentLink1Description: Datasheet; ComponentLink1URL: https://www.littelfuse.com/~/media/electronics/datasheets/tvs_diode_arrays/littelfuse_tvs_diode_array_sp1326_datasheet.pdf.pdf; ComponentLink2Description: DigiKey Link; ComponentLink2URL: http://digikey.com/product-detail/en/littelfuse-inc/SP1326-01LTG/F10717CT-ND/8017926; LastUpdated: 9/2/2020 1:28:25 AM; Lifecycle Status: Active; Minimum Order: 1; Mounting Type: Surface Mount; Operating Temperature: -40°C ~ 125°C (TA); Package / Case: SC-79, SOD-523; Packaging: TapeAndReel; PartId: 9823; Part Status: Active; Price: 0.09; Series: SP1326, SPA®; Supplier 1: DigiKey; Supplier Part Number 1: F10717CT-ND; Supplier Device Package: SOD-523
footprint SOD523F
pins: 1, 2

## SP4020-01FTG
designator D?
TVS DIODE 3.3V 21.8V SOD323; Manufacturer: Littelfuse Inc.; Capacitance @ Frequency: 2.5pF @ 1MHz; Current - Peak Pulse (10/1000µs): 30A (8/20µs); Power Line Protection: No; Power - Peak Pulse: 750W; Type: Steering (Rail to Rail); Unidirectional Channels: 1; Voltage - Breakdown (Min): 3.5V; Voltage - Clamping (Max) @ Ipp: 21.8V (Typ); Voltage - Reverse Standoff (Typ): 3.3V (Max); Part Number: SP4020-01FTG; Applications: Ethernet; ComponentLink1Description: Datasheet; ComponentLink1URL: https://www.littelfuse.com/~/media/electronics/datasheets/tvs_diode_arrays/littelfuse_tvs_diode_array_sp4020_datasheet.pdf.pdf; ComponentLink2Description: DigiKey Link; ComponentLink2URL: http://digikey.com/product-detail/en/littelfuse-inc/SP4020-01FTG/F6270CT-ND/4579604; LastUpdated: 9/2/2020 1:28:27 AM; Lifecycle Status: Active; Minimum Order: 1; Mounting Type: Surface Mount; Operating Temperature: -40°C ~ 125°C (TJ); Package / Case: SC-76, SOD-323; Packaging: TapeAndReel; PartId: 9868; Part Status: Active; Price: 0.22; Series: SP4020, SPA®; Supplier 1: DigiKey; Supplier Part Number 1: F6270CT-ND; Supplier Device Package: SOD-323
footprint SOD323
pins: 1, 2

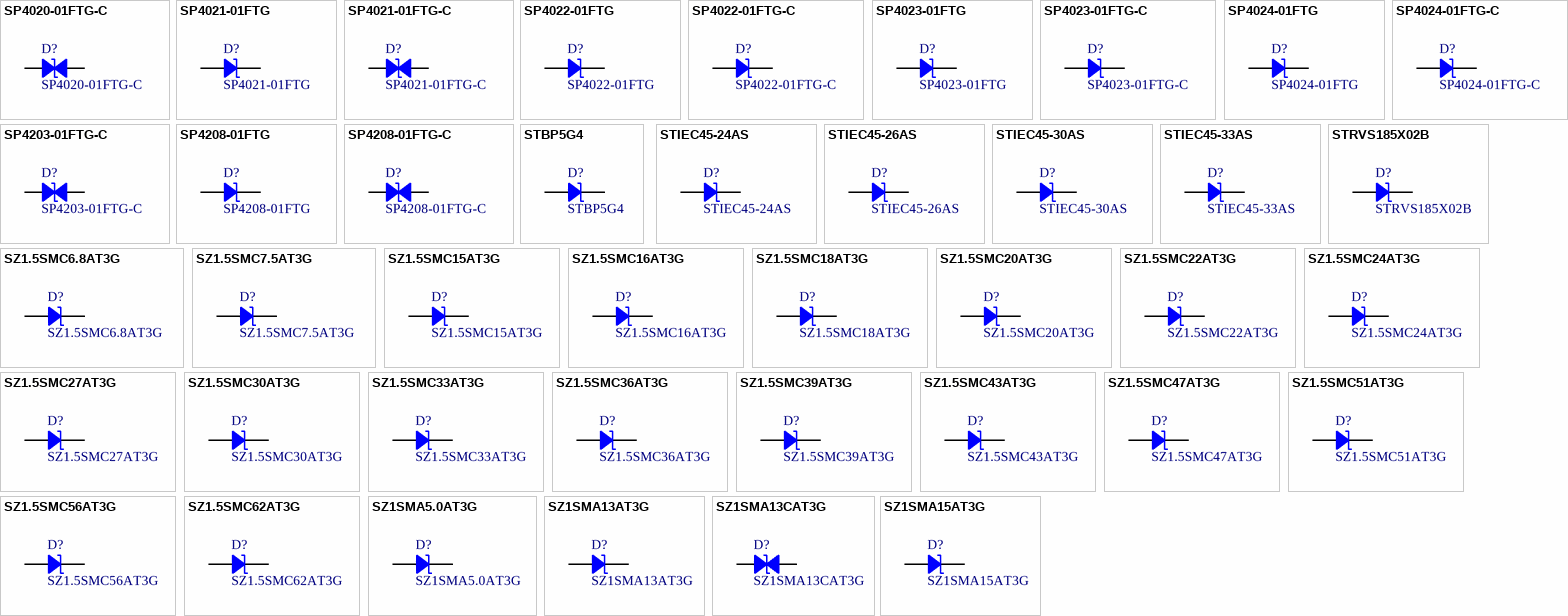
[diagram p121: symbols SP4020-01FTG-C to SZ1SMA15AT3G]

## SP4020-01FTG-C
designator D?
TVS DIODE 3.3V 21.8V SOD323; Manufacturer: Littelfuse Inc.; Bidirectional Channels: 1; Capacitance @ Frequency: 2.5pF @ 1MHz; Current - Peak Pulse (10/1000µs): 30A (8/20µs); Power Line Protection: No; Power - Peak Pulse: 750W; Type: Steering (Rail to Rail); Voltage - Breakdown (Min): 3.5V; Voltage - Clamping (Max) @ Ipp: 21.8V (Typ); Voltage - Reverse Standoff (Typ): 3.3V (Max); Part Number: SP4020-01FTG-C; Applications: Ethernet; ComponentLink1Description: Datasheet; ComponentLink1URL: https://www.littelfuse.com/~/media/electronics/datasheets/tvs_diode_arrays/littelfuse_tvs_diode_array_sp4020_datasheet.pdf.pdf; ComponentLink2Description: DigiKey Link; ComponentLink2URL: http://digikey.com/product-detail/en/littelfuse-inc/SP4020-01FTG-C/F6271CT-ND/4579605; LastUpdated: 9/2/2020 1:28:29 AM; Lifecycle Status: Active; Minimum Order: 1; Mounting Type: Surface Mount; Operating Temperature: -40°C ~ 125°C (TJ); Package / Case: SC-76, SOD-323; Packaging: TapeAndReel; PartId: 9950; Part Status: Active; Price: 0.23; Series: SP4020, SPA®; Supplier 1: DigiKey; Supplier Part Number 1: F6271CT-ND; Supplier Device Package: SOD-323
footprint SOD323
pins: 1, 2

## SP4021-01FTG
designator D?
TVS DIODE 5V 19.6V SOD323; Manufacturer: Littelfuse Inc.; Capacitance @ Frequency: 2.5pF @ 1MHz; Current - Peak Pulse (10/1000µs): 24A (8/20µs); Power Line Protection: No; Power - Peak Pulse: 600W; Type: Steering (Rail to Rail); Unidirectional Channels: 1; Voltage - Breakdown (Min): 6.3V; Voltage - Clamping (Max) @ Ipp: 19.6V (Typ); Voltage - Reverse Standoff (Typ): 5V (Max); Part Number: SP4021-01FTG; Applications: Ethernet; ComponentLink1Description: Datasheet; ComponentLink1URL: https://www.littelfuse.com/~/media/electronics/datasheets/tvs_diode_arrays/littelfuse_tvs_diode_array_sp4021_datasheet.pdf.pdf; ComponentLink2Description: DigiKey Link; ComponentLink2URL: http://digikey.com/product-detail/en/littelfuse-inc/SP4021-01FTG/F6272CT-ND/4579606; LastUpdated: 9/2/2020 1:28:27 AM; Lifecycle Status: Active; Minimum Order: 1; Mounting Type: Surface Mount; Operating Temperature: -40°C ~ 125°C (TJ); Package / Case: SC-76, SOD-323; Packaging: TapeAndReel; PartId: 9862; Part Status: Active; Price: 0.20; Series: SP4021, SPA®; Supplier 1: DigiKey; Supplier Part Number 1: F6272CT-ND; Supplier Device Package: SOD-323
footprint SOD323
pins: 1, 2

## SP4021-01FTG-C
designator D?
TVS DIODE 5V 19.6V SOD323; Manufacturer: Littelfuse Inc.; Bidirectional Channels: 1; Capacitance @ Frequency: 2.5pF @ 1MHz; Current - Peak Pulse (10/1000µs): 24A (8/20µs); Power Line Protection: No; Power - Peak Pulse: 600W; Type: Steering (Rail to Rail); Voltage - Breakdown (Min): 6.3V; Voltage - Clamping (Max) @ Ipp: 19.6V (Typ); Voltage - Reverse Standoff (Typ): 5V (Max); Part Number: SP4021-01FTG-C; Applications: Ethernet; ComponentLink1Description: Datasheet; ComponentLink1URL: https://www.littelfuse.com/~/media/electronics/datasheets/tvs_diode_arrays/littelfuse_tvs_diode_array_sp4021_datasheet.pdf.pdf; ComponentLink2Description: DigiKey Link; ComponentLink2URL: http://digikey.com/product-detail/en/littelfuse-inc/SP4021-01FTG-C/F6273CT-ND/4579607; LastUpdated: 9/2/2020 1:28:29 AM; Lifecycle Status: Active; Minimum Order: 1; Mounting Type: Surface Mount; Operating Temperature: -40°C ~ 125°C (TJ); Package / Case: SC-76, SOD-323; Packaging: TapeAndReel; PartId: 9869; Part Status: Active; Price: 0.22; Series: SP4021, SPA®; Supplier 1: DigiKey; Supplier Part Number 1: F6273CT-ND; Supplier Device Package: SOD-323; Unidirectional Channels: 1
footprint SOD323
pins: 1, 2

## SP4022-01FTG
designator D?
TVS DIODE 12V 35V SOD323; Manufacturer: Littelfuse Inc.; Capacitance @ Frequency: 1.3pF @ 1MHz; Current - Peak Pulse (10/1000µs): 15A (8/20µs); Power Line Protection: No; Power - Peak Pulse: 500W; Type: Steering (Rail to Rail); Unidirectional Channels: 1; Voltage - Breakdown (Min): 13.3V; Voltage - Reverse Standoff (Typ): 12V (Max); Part Number: SP4022-01FTG; Applications: Automotive; ComponentLink1Description: Datasheet; ComponentLink1URL: https://www.littelfuse.com/~/media/electronics/datasheets/tvs_diode_arrays/littelfuse_tvs_diode_array_sp4022_datasheet.pdf.pdf; ComponentLink2Description: DigiKey Link; ComponentLink2URL: http://digikey.com/product-detail/en/littelfuse-inc/SP4022-01FTG/F6756CT-ND/5428760; LastUpdated: 9/2/2020 1:28:27 AM; Lifecycle Status: Active; Minimum Order: 1; Mounting Type: Surface Mount; Operating Temperature: -40°C ~ 125°C (TJ); Package / Case: SC-76, SOD-323; Packaging: TapeAndReel; PartId: 9895; Part Status: Active; Price: 0.16; Series: Automotive, AEC-Q101, SP4022, SPA®; Supplier 1: DigiKey; Supplier Part Number 1: F6756CT-ND; Supplier Device Package: SOD-323; Voltage - Clamping (Max) @ Ipp: 35V
footprint SOD323
pins: 1, 2

## SP4022-01FTG-C
designator D?
TVS DIODE 12V 35V SOD323; Manufacturer: Littelfuse Inc.; Capacitance @ Frequency: 1.3pF @ 1MHz; Current - Peak Pulse (10/1000µs): 15A (8/20µs); Power Line Protection: No; Power - Peak Pulse: 500W; Type: Steering (Rail to Rail); Unidirectional Channels: 1; Voltage - Breakdown (Min): 13.3V; Voltage - Reverse Standoff (Typ): 12V (Max); Part Number: SP4022-01FTG-C; Applications: Automotive; ComponentLink1Description: Datasheet; ComponentLink1URL: https://www.littelfuse.com/~/media/electronics/datasheets/tvs_diode_arrays/littelfuse_tvs_diode_array_sp4022_datasheet.pdf.pdf; ComponentLink2Description: DigiKey Link; ComponentLink2URL: http://digikey.com/product-detail/en/littelfuse-inc/SP4022-01FTG-C/F6755CT-ND/5428759; LastUpdated: 9/2/2020 1:28:27 AM; Lifecycle Status: Active; Minimum Order: 1; Mounting Type: Surface Mount; Operating Temperature: -40°C ~ 125°C (TJ); Package / Case: SC-76, SOD-323; Packaging: TapeAndReel; PartId: 9893; Part Status: Active; Price: 0.18; Series: Automotive, AEC-Q101, SP4022, SPA®; Supplier 1: DigiKey; Supplier Part Number 1: F6755CT-ND; Supplier Device Package: SOD-323; Voltage - Clamping (Max) @ Ipp: 35V
footprint SOD323
pins: 1, 2

## SP4023-01FTG
designator D?
TVS DIODE 15V 40V SOD323; Manufacturer: Littelfuse Inc.; Capacitance @ Frequency: 1.3pF @ 1MHz; Current - Peak Pulse (10/1000µs): 12A (8/20µs); Power Line Protection: No; Power - Peak Pulse: 450W; Type: Steering (Rail to Rail); Unidirectional Channels: 1; Voltage - Breakdown (Min): 16V; Voltage - Reverse Standoff (Typ): 15V (Max); Part Number: SP4023-01FTG; Applications: Automotive; ComponentLink1Description: Datasheet; ComponentLink1URL: https://www.littelfuse.com/~/media/electronics/datasheets/tvs_diode_arrays/littelfuse_tvs_diode_array_sp4023_datasheet.pdf.pdf; ComponentLink2Description: DigiKey Link; ComponentLink2URL: http://digikey.com/product-detail/en/littelfuse-inc/SP4023-01FTG/F6758CT-ND/5428762; LastUpdated: 9/2/2020 1:28:27 AM; Lifecycle Status: Active; Minimum Order: 1; Mounting Type: Surface Mount; Operating Temperature: -40°C ~ 125°C (TJ); Package / Case: SC-76, SOD-323; Packaging: TapeAndReel; PartId: 9894; Part Status: Active; Price: 0.16; Series: Automotive, AEC-Q101, SP4023, SPA®; Supplier 1: DigiKey; Supplier Part Number 1: F6758CT-ND; Supplier Device Package: SOD-323; Voltage - Clamping (Max) @ Ipp: 40V
footprint SOD323
pins: 1, 2

## SP4023-01FTG-C
designator D?
TVS DIODE 15V 40V SOD323; Manufacturer: Littelfuse Inc.; Capacitance @ Frequency: 1.3pF @ 1MHz; Current - Peak Pulse (10/1000µs): 12A (8/20µs); Power Line Protection: No; Power - Peak Pulse: 450W; Type: Steering (Rail to Rail); Unidirectional Channels: 1; Voltage - Breakdown (Min): 16V; Voltage - Reverse Standoff (Typ): 15V (Max); Part Number: SP4023-01FTG-C; Applications: Automotive; ComponentLink1Description: Datasheet; ComponentLink1URL: https://www.littelfuse.com/~/media/electronics/datasheets/tvs_diode_arrays/littelfuse_tvs_diode_array_sp4023_datasheet.pdf.pdf; ComponentLink2Description: DigiKey Link; ComponentLink2URL: http://digikey.com/product-detail/en/littelfuse-inc/SP4023-01FTG-C/F6757CT-ND/5428761; LastUpdated: 9/2/2020 1:28:27 AM; Lifecycle Status: Active; Minimum Order: 1; Mounting Type: Surface Mount; Operating Temperature: -40°C ~ 125°C (TJ); Package / Case: SC-76, SOD-323; Packaging: TapeAndReel; PartId: 9892; Part Status: Active; Price: 0.18; Series: Automotive, AEC-Q101, SP4023, SPA®; Supplier 1: DigiKey; Supplier Part Number 1: F6757CT-ND; Supplier Device Package: SOD-323; Voltage - Clamping (Max) @ Ipp: 40V
footprint SOD323
pins: 1, 2

## SP4024-01FTG
designator D?
TVS DIODE 24V 50V SOD323; Manufacturer: Littelfuse Inc.; Capacitance @ Frequency: 1.3pF @ 1MHz; Current - Peak Pulse (10/1000µs): 7A (8/20µs); Power Line Protection: No; Power - Peak Pulse: 350W; Type: Steering (Rail to Rail); Unidirectional Channels: 1; Voltage - Breakdown (Min): 26V; Voltage - Reverse Standoff (Typ): 24V (Max); Part Number: SP4024-01FTG; Applications: Automotive; ComponentLink1Description: Datasheet; ComponentLink1URL: https://www.littelfuse.com/~/media/electronics/datasheets/tvs_diode_arrays/littelfuse_tvs_diode_array_sp4024_datasheet.pdf.pdf; ComponentLink2Description: DigiKey Link; ComponentLink2URL: http://digikey.com/product-detail/en/littelfuse-inc/SP4024-01FTG/F6760CT-ND/5428764; LastUpdated: 9/2/2020 1:28:26 AM; Lifecycle Status: Active; Minimum Order: 1; Mounting Type: Surface Mount; Operating Temperature: -40°C ~ 125°C (TJ); Package / Case: SC-76, SOD-323; Packaging: TapeAndReel; PartId: 9845; Part Status: Active; Price: 0.16; Series: Automotive, AEC-Q101, SP4024, SPA®; Supplier 1: DigiKey; Supplier Part Number 1: F6760CT-ND; Supplier Device Package: SOD-323; Voltage - Clamping (Max) @ Ipp: 50V
footprint SOD323
pins: 1, 2

## SP4024-01FTG-C
designator D?
TVS DIODE 24V 50V SOD323; Manufacturer: Littelfuse Inc.; Capacitance @ Frequency: 1.3pF @ 1MHz; Current - Peak Pulse (10/1000µs): 7A (8/20µs); Power Line Protection: No; Power - Peak Pulse: 350W; Type: Steering (Rail to Rail); Unidirectional Channels: 1; Voltage - Breakdown (Min): 26V; Voltage - Reverse Standoff (Typ): 24V (Max); Part Number: SP4024-01FTG-C; Applications: Automotive; ComponentLink1Description: Datasheet; ComponentLink1URL: https://www.littelfuse.com/~/media/electronics/datasheets/tvs_diode_arrays/littelfuse_tvs_diode_array_sp4024_datasheet.pdf.pdf; ComponentLink2Description: DigiKey Link; ComponentLink2URL: http://digikey.com/product-detail/en/littelfuse-inc/SP4024-01FTG-C/F6759CT-ND/5428763; LastUpdated: 9/2/2020 1:28:27 AM; Lifecycle Status: Active; Minimum Order: 1; Mounting Type: Surface Mount; Operating Temperature: -40°C ~ 125°C (TJ); Package / Case: SC-76, SOD-323; Packaging: TapeAndReel; PartId: 9854; Part Status: Active; Price: 0.18; Series: Automotive, AEC-Q101, SP4024, SPA®; Supplier 1: DigiKey; Supplier Part Number 1: F6759CT-ND; Supplier Device Package: SOD-323; Voltage - Clamping (Max) @ Ipp: 50V
footprint SOD323
pins: 1, 2